# Altium footprint library PCB - LEADLESS - SON - MICRO CRYSTAL 8-SON (3.2x1.5).PCBLIB: 1 footprints
Each footprint in its own frame and in the unit in brackets; x right, y up, seen from the top. Pads: shape width x height; smd on the part's side, far side on the other; paste and mask are expansions set on the pad; w line width, h text height; cw(c..) or ccw(c..) is an arc to the next point about the centre after c.
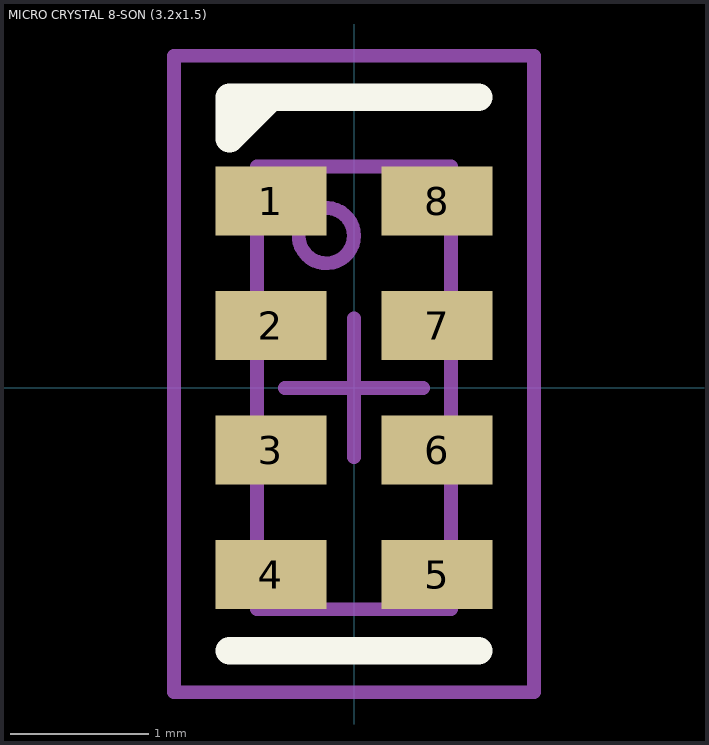
[diagram p0: the footprint, top view; thin cyan lines are the x and y axes]

## MICRO CRYSTAL 8-SON (3.2x1.5) [mm]
height 0.8
pads (8):
  rect 0.8x0.5 smd mask+0.05: 1(-0.6,1.35) 2(-0.6,0.45) 3(-0.6,-0.45) 4(-0.6,-1.35) 5(0.6,-1.35) 6(0.6,-0.45) 7(0.6,0.45) 8(0.6,1.35)
Top Overlay:
  lines w0.2: -0.9,-1.9 0.9,-1.9 ; -0.6,2.1 -0.9,1.8 -0.9,2.1 0.9,2.1
Mechanical 13:
  circle w0.1: c-0.2,1.1 r0.2
  lines w0.1: -0.7,-1.6 -0.7,1.6 0.7,1.6 0.7,-1.6 -0.7,-1.6
Mechanical 15:
  lines w0.1: -0.5,0 0.5,0 ; 0,-0.5 0,0.5 ; -1.3,-2.2 -1.3,2.4 1.3,2.4 1.3,-2.2 -1.3,-2.2
3D body "RV-8803-C7.stp": height 0.8, standoff 0, extent -0.75,-1.6 0.75,1.6